# EAGLE library part ADS8688AIDBT (library ADS8688AIDBT)
16-Bit, 500kSPS, 8-Ch SAR ADC With Bipolar Inputs Using 5V Supply and Low-Drift VREF Source: Datasheet <http://www.ti.com/lit/gpn/ads8688a>
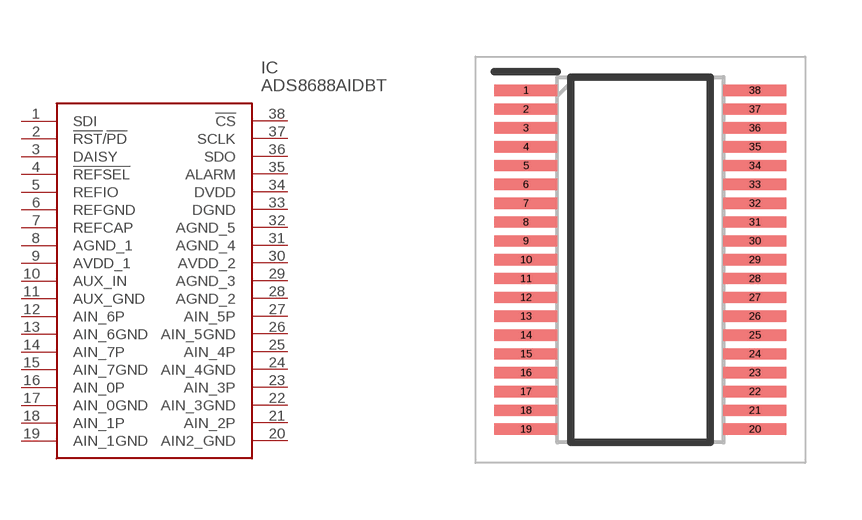
[diagram p0: symbol with the pads of SOP50P640X120-38M; footprint SOP50P640X120-38M]

Designator prefix IC

## ADS8688AIDBT (Description: 16-Bit, 500kSPS, 8-Ch SAR ADC With Bipolar Inputs Using 5V Supply and Low-Drift VREF; Height: 1.2mm; Manufacturer_Name: Texas Instruments; Manufacturer_Part_Number: ADS8688AIDBT; Mouser_Part_Number: 595-ADS8688AIDBT; Mouser_Price-Stock: https://www.mouser.co.uk/ProductDetail/Texas-Instruments/ADS8688AIDBT?qs=xufs61hA5MZv%2F46DP%252BYoHw%3D%3D)  [SOP50P640X120-38M]
1  SDI
2  !RST!/!PD
3  DAISY
4  !REFSEL
5  REFIO
6  REFGND
7  REFCAP
8  AGND_1
9  AVDD_1
10  AUX_IN
11  AUX_GND
12  AIN_6P
13  AIN_6GND
14  AIN_7P
15  AIN_7GND
16  AIN_0P
17  AIN_0GND
18  AIN_1P
19  AIN_1GND
20  AIN2_GND
21  AIN_2P
22  AIN_3GND
23  AIN_3P
24  AIN_4GND
25  AIN_4P
26  AIN_5GND
27  AIN_5P
28  AGND_2
29  AGND_3
30  AVDD_2
31  AGND_4
32  AGND_5
33  DGND
34  DVDD
35  ALARM
36  SDO
37  SCLK
38  !CS

## Footprint SOP50P640X120-38M (pad centres in mm)
DBT
smd 1.675 x 0.3: 1 -3.038,4.5; 2 -3.038,4; 3 -3.038,3.5; 4 -3.038,3; 5 -3.038,2.5; 6 -3.038,2; 7 -3.038,1.5; 8 -3.038,1; 9 -3.038,0.5; 10 -3.038,0; 11 -3.038,-0.5; 12 -3.038,-1; 13 -3.038,-1.5; 14 -3.038,-2; 15 -3.038,-2.5; 16 -3.038,-3; 17 -3.038,-3.5; 18 -3.038,-4; 19 -3.038,-4.5; 20 3.038,-4.5; 21 3.038,-4; 22 3.038,-3.5; 23 3.038,-3; 24 3.038,-2.5; 25 3.038,-2; 26 3.038,-1.5; 27 3.038,-1; 28 3.038,-0.5; 29 3.038,0; 30 3.038,0.5; 31 3.038,1; 32 3.038,1.5; 33 3.038,2; 34 3.038,2.5; 35 3.038,3; 36 3.038,3.5; 37 3.038,4; 38 3.038,4.5